# Altium footprint library APSS Flight Parts.PcbLib: 80 footprints (part 4 of 5)
Each footprint in its own frame and in the unit in brackets; x right, y up, seen from the top. Pads: shape width x height; smd on the part's side, far side on the other; paste and mask are expansions set on the pad; w line width, h text height; cw(c..) or ccw(c..) is an arc to the next point about the centre after c.
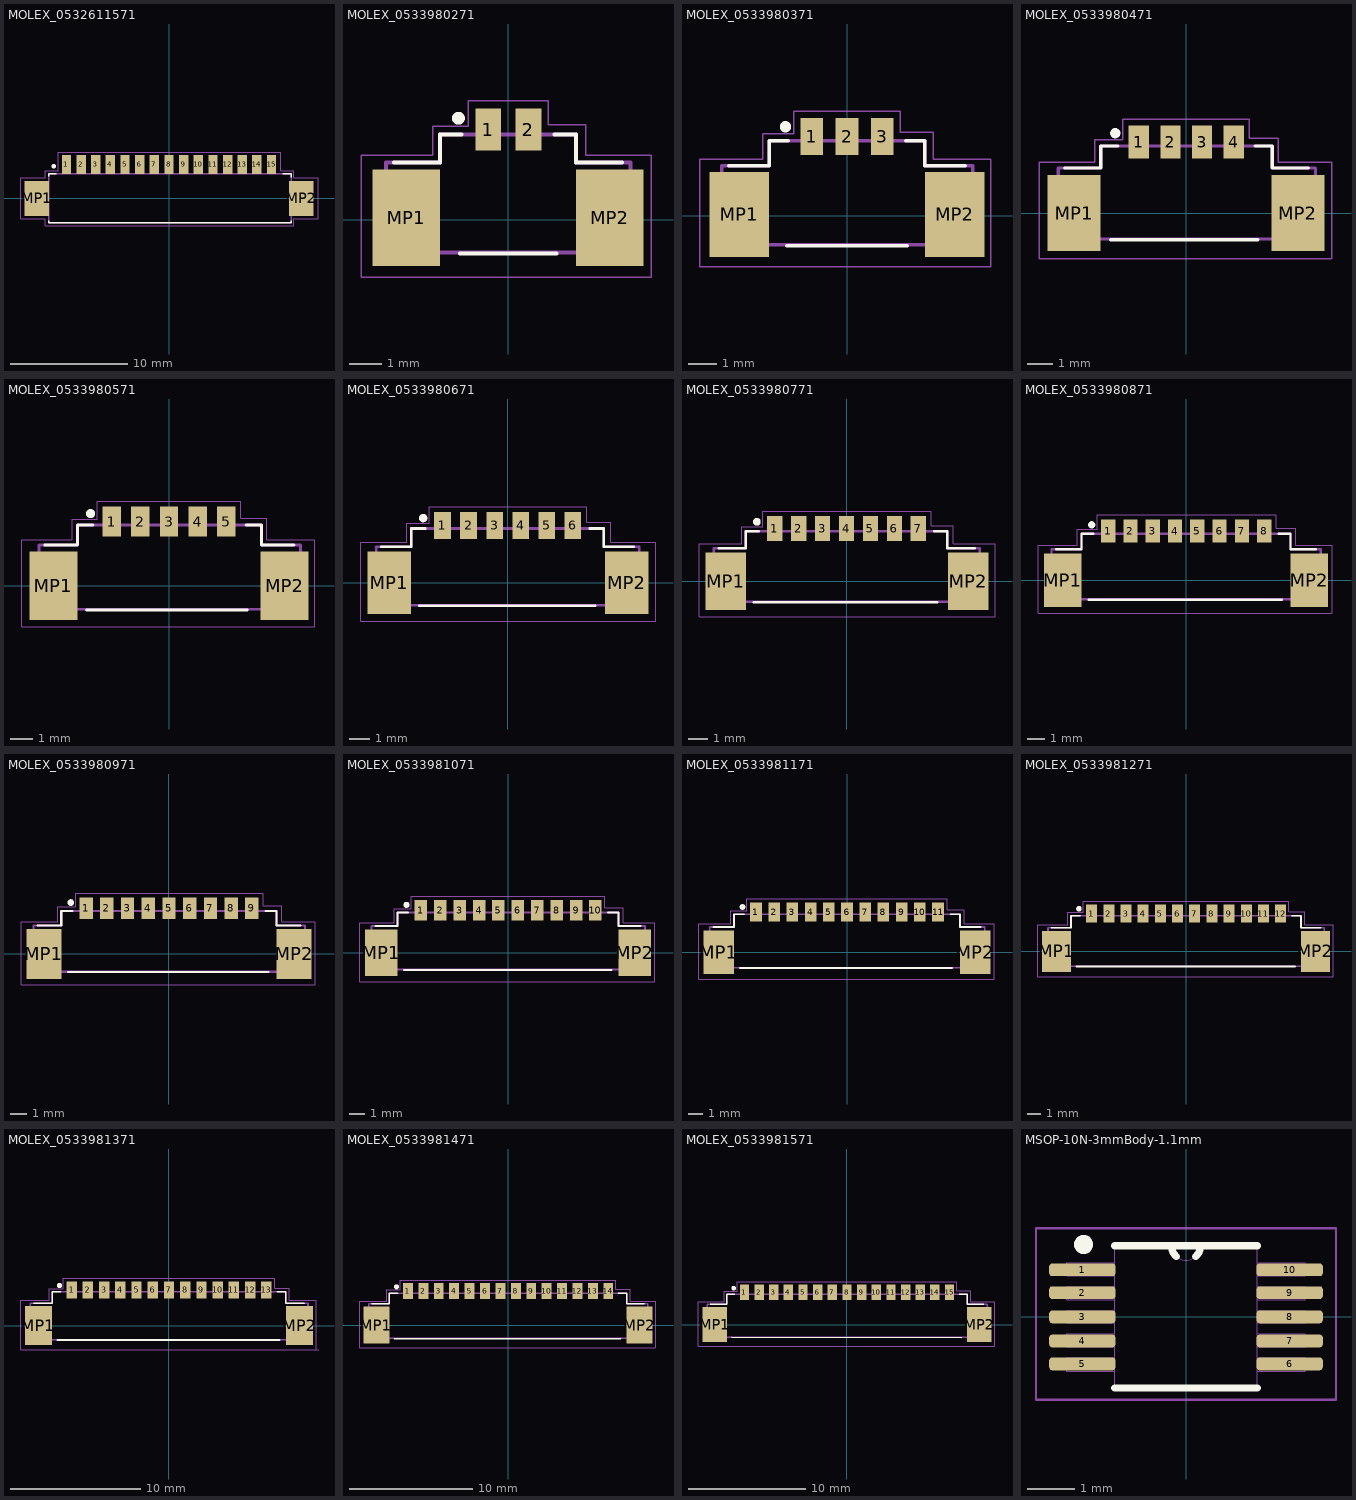
[diagram p3: the footprints below, top view; thin cyan lines are the x and y axes]

## MOLEX_0532611571 [mm] "Header - Picoblade 15-pin, SMT, RA, 3.4mm height"
height 3.4
pads (17):
  rect 0.8x1.6 smd mask+0.051: 1(-8.75,2.9) 2(-7.5,2.9) 3(-6.25,2.9) 4(-5,2.9) 5(-3.75,2.9) 6(-2.5,2.9) 7(-1.25,2.9) 8(0,2.9) 9(1.25,2.9) 10(2.5,2.9) 11(3.75,2.9) 12(5,2.9) 13(6.25,2.9) 14(7.5,2.9) 15(8.75,2.9)
  rect 2.1x3 smd mask+0.051: MP1(-11.3,0) MP2(11.3,0)
Top Overlay:
  circle w0.2: c-9.831,2.735 r0.1
  lines w0.127: -10.275,-1.9 -10.275,-2.1 10.425,-2.1 10.425,-1.9 ; -10.276,1.9 -10.276,2.1 -9.6,2.1 ; 9.7,2.1 10.425,2.1 10.425,1.8
Mechanical 13:
  lines w0.127: -10.275,-1.4 -11.975,-1.4 -11.975,1.4 -10.275,1.4 ; -10.275,-1.4 -10.275,-2.1 10.425,-2.1 10.425,-1.4 ; -10.275,-1.4 -10.275,1.4 ; -10.275,1.4 -10.275,2.1 10.425,2.1 10.425,1.4 ; 10.425,-1.4 12.125,-1.4 12.125,1.4 10.425,1.4 ; 10.425,-1.4 10.425,1.4
Mechanical 15:
  lines w0.05: -12.65,-1.75 -10.55,-1.75 -10.55,-2.35 10.65,-2.35 10.65,-1.75 12.75,-1.75 12.75,1.75 10.65,1.75 10.65,2.35 9.55,2.35 9.55,3.95 -9.45,3.95 -9.45,2.35 -10.55,2.35 -10.55,1.75 -12.65,1.75 -12.65,-1.75
3D body "53261-1571--3DModel-STEP-194946.STEP": height 3.41, standoff 0.01, extent -11.95,-2.1 11.95,3.1

## MOLEX_0533980271 [mm] "Header - Picoblade 02-pin, SMT, STR, 4.7mm height"
height 4.7
pads (4):
  rect 0.8x1.3 smd mask+0.051: 1(-0.625,2.8) 2(0.625,2.8)
  rect 2.1x3 smd mask+0.051: MP1(-3.175,0.05) MP2(3.155,0.05)
Top Overlay:
  circle w0.2: c-1.55,3.15 r0.1
  lines w0.127: -3.55,1.775 -2.125,1.775 -2.125,2.65 -1.45,2.65 ; -1.5,-1.05 1.5,-1.05 ; 1.43,2.65 2.105,2.65 2.105,1.775 3.53,1.775
Mechanical 13:
  lines w0.127: 1.23,2.65 2.105,2.65 ; 3.8,-1.025 -3.8,-1.025 -3.8,1.775 -2.125,1.775 -2.125,2.65 -1.35,2.65 2.105,2.65 ; 3.805,-1.025 3.805,1.775 2.105,1.775 2.105,2.65
Mechanical 15:
  lines w0.05: -4.575,-1.8 -4.575,2 -2.35,2 -2.35,2.9 -1.25,2.9 -1.25,3.7 1.24,3.7 1.24,2.95 2.405,2.95 2.405,2 4.44,2 4.44,-1.8 -4.575,-1.8
3D body "0533980271--3DModel-STEP-361473.STEP": height 4.72, standoff -0.02, extent -3.825,-1.05 3.825,3.15

## MOLEX_0533980371 [mm] "Header - Picoblade 03-pin, SMT, STR, 4.7mm height"
height 4.7
pads (5):
  rect 0.8x1.3 smd mask+0.051: 1(-1.25,2.8) 2(0,2.8) 3(1.25,2.8)
  rect 2.1x3 smd mask+0.051: MP1(-3.8,0.05) MP2(3.8,0.05)
Top Overlay:
  circle w0.2: c-2.175,3.15 r0.1
  lines w0.127: -4.175,1.775 -2.75,1.775 -2.75,2.65 -2.075,2.65 ; -2.125,-1.05 2.125,-1.05 ; 2.075,2.65 2.75,2.65 2.75,1.775 4.175,1.775
Mechanical 13:
  lines w0.127: -4.425,-1.025 4.45,-1.025 4.45,1.775 2.75,1.775 2.75,2.65 1.875,2.65 -1.975,2.65 -2.75,2.65 -2.75,1.775 -4.425,1.775 -4.425,-1.025
Mechanical 15:
  lines w0.05: 1.875,3.7 -1.875,3.7 -1.875,2.9 -2.975,2.9 -2.975,2 -5.2,2 -5.2,-1.8 5.075,-1.8 ; 1.885,3.7 1.885,2.95 3.05,2.95 3.05,2 5.085,2 5.085,-1.8
3D body "533980371.stp": height 4.71, standoff 0.01, extent -4.45,-1.025 4.45,3.175

## MOLEX_0533980471 [mm] "Header - Picoblade 04-pin, SMT, STR, 4.7mm height"
height 4.7
pads (6):
  rect 0.8x1.3 smd mask+0.051: 1(-1.875,2.8) 2(-0.625,2.8) 3(0.625,2.8) 4(1.875,2.8)
  rect 2.1x3 smd mask+0.051: MP1(-4.425,0) MP2(4.405,0)
Top Overlay:
  circle w0.2: c-2.8,3.15 r0.1
  lines w0.127: -4.8,1.775 -3.375,1.775 -3.375,2.65 -2.7,2.65 ; -2.975,-1.05 2.825,-1.05 ; 2.72,2.65 3.395,2.65 3.395,1.775 4.82,1.775
Mechanical 13:
  lines w0.127: 2.52,2.65 3.395,2.65 ; 5.095,-1.025 5.095,1.775 3.395,1.775 3.395,2.65 ; 5.1,-1.025 -5.05,-1.025 -5.05,1.775 -3.375,1.775 -3.375,2.65 -2.6,2.65 3.395,2.65
Mechanical 15:
  lines w0.05: 2.475,3.7 -2.5,3.7 -2.5,2.9 -3.6,2.9 -3.6,2 -5.8,2 -5.8,-1.8 5.725,-1.8 ; 2.48,3.7 2.48,2.95 3.63,2.95 3.63,2 5.73,2 5.73,-1.8
3D body "53398-0471--3DModel-STEP-194946.STEP": height 4.72, standoff -0.02, extent -5.05,-1.025 5.1,3.175

## MOLEX_0533980571 [mm] "Header - Picoblade 05-pin, SMT, STR, 4.7mm height"
height 4.7
pads (7):
  rect 0.8x1.3 smd mask+0.051: 1(-2.5,2.8) 2(-1.25,2.8) 3(0,2.8) 4(1.25,2.8) 5(2.5,2.8)
  rect 2.1x3 smd mask+0.051: MP1(-5.05,0) MP2(5.05,0)
Top Overlay:
  circle w0.2: c-3.425,3.15 r0.1
  lines w0.127: -5.425,1.775 -4,1.775 -4,2.65 -3.325,2.65 ; -3.6,-1.05 3.415,-1.05 ; 3.365,2.65 4.04,2.65 4.04,1.775 5.465,1.775
Mechanical 13:
  lines w0.127: 3.165,2.65 4.04,2.65 4.04,1.775 5.74,1.775 5.74,-1.025 ; 3.365,2.65 -3.225,2.65 -4,2.65 -4,1.775 -5.675,1.775 -5.675,-1.025 5.725,-1.025
Mechanical 15:
  lines w0.05: -6.425,-1.8 6.375,-1.8 6.375,2 4.275,2 4.275,2.95 3.125,2.95 3.125,3.7 -3.125,3.7 -3.125,2.9 -4.225,2.9 -4.225,2 -6.425,2 -6.425,-1.8
3D body "533980571.stp": height 4.71, standoff 0.01, extent -5.7,-1.025 5.7,3.175

## MOLEX_0533980671 [mm] "Header - Picoblade 06-pin, SMT, STR, 4.7mm height"
height 4.7
pads (8):
  rect 0.8x1.3 smd mask+0.051: 1(-3.125,2.75) 2(-1.875,2.75) 3(-0.625,2.75) 4(0.625,2.75) 5(1.875,2.75) 6(3.125,2.75)
  rect 2.1x3 smd mask+0.051: MP1(-5.675,0) MP2(5.705,0)
Top Overlay:
  circle w0.2: c-4.05,3.1 r0.1
  lines w0.127: -6.05,1.725 -4.625,1.725 -4.625,2.6 -3.95,2.6 ; -4.225,-1.1 4.2,-1.1 ; 3.935,2.6 4.61,2.6 4.61,1.725 6.035,1.725
Mechanical 13:
  lines w0.127: 3.86,2.6 4.61,2.6 ; 4.61,2.6 4.61,1.725 6.31,1.725 6.31,-1.075 -6.3,-1.075 -6.3,1.725 -4.625,1.725 -4.625,2.6 -3.85,2.6 4.61,2.6
Mechanical 15:
  lines w0.05: 3.775,3.65 -3.75,3.65 -3.75,2.85 -4.85,2.85 -4.85,1.95 -7.05,1.95 -7.05,-1.85 7.1,-1.85 ; 3.78,3.65 3.78,2.9 4.93,2.9 4.93,1.95 7.105,1.95 7.105,-1.85
3D body "0533980671--3DModel-STEP-361473.STEP": height 4.72, standoff -0.02, extent -6.325,-1.1 6.325,3.1

## MOLEX_0533980771 [mm] "Header - Picoblade 07-pin, SMT, STR, 4.7mm height"
height 4.7
pads (9):
  rect 0.8x1.3 smd mask+0.051: 1(-3.75,2.75) 2(-2.5,2.75) 3(-1.25,2.75) 4(0,2.75) 5(1.25,2.75) 6(2.5,2.75) 7(3.75,2.75)
  rect 2.1x3 smd mask+0.051: MP1(-6.3,0) MP2(6.35,0)
Top Overlay:
  circle w0.2: c-4.675,3.1 r0.1
  lines w0.127: -6.675,1.725 -5.25,1.725 -5.25,2.6 -4.575,2.6 ; -4.85,-1.1 4.725,-1.1 ; 4.58,2.6 5.255,2.6 5.255,1.725 6.68,1.725
Mechanical 13:
  lines w0.127: 4.505,2.6 5.255,2.6 5.255,1.725 6.955,1.725 6.955,-1.075 -6.925,-1.075 -6.925,1.725 -5.25,1.725 -5.25,2.6 -4.475,2.6 5.205,2.6
Mechanical 15:
  lines w0.05: -7.675,-1.85 7.75,-1.85 7.75,1.95 5.575,1.95 5.575,2.9 4.425,2.9 4.425,3.65 -4.375,3.65 -4.375,2.85 -5.475,2.85 -5.475,1.95 -7.675,1.95 -7.675,-1.85
3D body "533980771.stp": height 4.71, standoff 0.01, extent -6.95,-1.1 6.95,3.1

## MOLEX_0533980871 [mm] "Header - Picoblade 08-pin, SMT, STR, 4.7mm height"
height 4.7
pads (10):
  rect 0.8x1.3 smd mask+0.051: 1(-4.375,2.75) 2(-3.125,2.75) 3(-1.875,2.75) 4(-0.625,2.75) 5(0.625,2.75) 6(1.875,2.75) 7(3.125,2.75) 8(4.375,2.75)
  rect 2.1x3 smd mask+0.051: MP1(-6.925,0) MP2(6.905,0)
Top Overlay:
  circle w0.2: c-5.3,3.1 r0.1
  lines w0.127: -7.3,1.725 -5.875,1.725 -5.875,2.6 -5.2,2.6 ; -5.475,-1.1 5.375,-1.1 ; 5.175,2.6 5.85,2.6 5.85,1.725 7.275,1.725
Mechanical 13:
  lines w0.127: 5.1,2.6 5.85,2.6 ; 5.85,2.6 5.85,1.725 7.55,1.725 7.55,-1.075 -7.55,-1.075 -7.55,1.725 -5.875,1.725 -5.875,2.6 -5.1,2.6 5.85,2.6
Mechanical 15:
  lines w0.05: 5.05,3.65 -5,3.65 -5,2.85 -6.1,2.85 -6.1,1.95 -8.3,1.95 -8.3,-1.85 8.175,-1.85 ; 5.055,3.65 5.055,2.9 6.155,2.9 6.155,1.95 8.185,1.95 8.185,-1.85
3D body "0533980871--3DModel-STEP-361473.STEP": height 4.72, standoff -0.02, extent -7.575,-1.075 7.575,3.125

## MOLEX_0533980971 [mm] "Header - Picoblade 09-pin, SMT, STR, 4.7mm height"
height 4.7
pads (11):
  rect 0.8x1.3 smd mask+0.051: 1(-5,2.75) 2(-3.75,2.75) 3(-2.5,2.75) 4(-1.25,2.75) 5(0,2.75) 6(1.25,2.75) 7(2.5,2.75) 8(3.75,2.75) 9(5,2.75)
  rect 2.1x3 smd mask+0.051: MP1(-7.55,0) MP2(7.55,0)
Top Overlay:
  circle w0.2: c-5.925,3.1 r0.1
  lines w0.127: -7.925,1.725 -6.5,1.725 -6.5,2.6 -5.825,2.6 ; -6.1,-1.1 6,-1.1 ; 5.82,2.6 6.495,2.6 6.495,1.725 7.92,1.725
Mechanical 13:
  lines w0.127: 5.745,2.6 6.495,2.6 ; 6.495,2.6 6.495,1.725 8.195,1.725 8.195,-1.075 -8.175,-1.075 -8.175,1.725 -6.5,1.725 -6.5,2.6 -5.725,2.6 6.495,2.6
Mechanical 15:
  lines w0.05: 8.825,-1.85 -8.925,-1.85 -8.925,1.95 -6.725,1.95 -6.725,2.85 -5.625,2.85 -5.625,3.65 5.7,3.65 5.7,2.9 6.8,2.9 6.8,1.95 8.83,1.95 8.83,-1.85
3D body "533980971.stp": height 4.71, standoff 0.01, extent -8.2,-1.1 8.2,3.1

## MOLEX_0533981071 [mm] "Header - Picoblade 10-pin, SMT, STR, 4.7mm height"
height 4.7
pads (12):
  rect 0.8x1.3 smd mask+0.051: 1(-5.625,2.75) 2(-4.375,2.75) 3(-3.125,2.75) 4(-1.875,2.75) 5(-0.625,2.75) 6(0.625,2.75) 7(1.875,2.75) 8(3.125,2.75) 9(4.375,2.75) 10(5.625,2.75)
  rect 2.1x3 smd mask+0.051: MP1(-8.175,0) MP2(8.155,0)
Top Overlay:
  circle w0.2: c-6.55,3.1 r0.1
  lines w0.127: -8.55,1.725 -7.125,1.725 -7.125,2.6 -6.45,2.6 ; -6.725,-1.1 6.65,-1.1 ; 6.44,2.6 7.115,2.6 7.115,1.725 8.54,1.725
Mechanical 13:
  lines w0.127: 6.39,2.6 7.115,2.6 ; 7.115,2.6 7.115,1.725 8.815,1.725 8.815,-1.075 -8.8,-1.075 -8.8,1.725 -7.125,1.725 -7.125,2.6 -6.35,2.6 7.115,2.6
Mechanical 15:
  lines w0.05: 6.225,3.65 -6.25,3.65 -6.25,2.85 -7.35,2.85 -7.35,1.95 -9.55,1.95 -9.55,-1.85 9.45,-1.85 9.45,1.95 7.405,1.95 7.405,2.9 6.23,2.9 6.23,3.65
3D body "0533981071--3DModel-STEP-231308.STEP": height 4.72, standoff -0.02, extent -8.825,-1.075 8.825,3.125

## MOLEX_0533981171 [mm] "Header - Picoblade 11-pin, SMT, STR, 4.7mm height"
height 4.7
pads (13):
  rect 0.8x1.3 smd mask+0.051: 1(-6.25,2.75) 2(-5,2.75) 3(-3.75,2.75) 4(-2.5,2.75) 5(-1.25,2.75) 6(0,2.75) 7(1.25,2.75) 8(2.5,2.75) 9(3.75,2.75) 10(5,2.75) 11(6.25,2.75)
  rect 2.1x3 smd mask+0.051: MP1(-8.8,0) MP2(8.8,0)
Top Overlay:
  circle w0.2: c-7.175,3.1 r0.1
  lines w0.127: -9.175,1.725 -7.75,1.725 -7.75,2.6 -7.075,2.6 ; -7.35,-1.1 7.225,-1.1 ; 7.085,2.6 7.76,2.6 7.76,1.725 9.185,1.725
Mechanical 13:
  lines w0.127: 7.035,2.6 7.76,2.6 ; 7.76,2.6 -6.975,2.6 -7.75,2.6 -7.75,1.725 -9.425,1.725 -9.425,-1.075 9.46,-1.075 9.46,1.725 7.76,1.725 7.76,2.6
Mechanical 15:
  lines w0.05: -10.175,-1.85 10.095,-1.85 10.095,1.95 8.05,1.95 8.05,2.9 6.875,2.9 6.875,3.65 -6.875,3.65 -6.875,2.85 -7.975,2.85 -7.975,1.95 -10.175,1.95 -10.175,-1.85
3D body "533981171.stp": height 4.71, standoff 0.01, extent -9.45,-1.1 9.45,3.1

## MOLEX_0533981271 [mm] "Header - Picoblade 12-pin, SMT, STR, 4.7mm height"
height 4.7
pads (14):
  rect 0.8x1.3 smd mask+0.051: 1(-6.875,2.75) 2(-5.625,2.75) 3(-4.375,2.75) 4(-3.125,2.75) 5(-1.875,2.75) 6(-0.625,2.75) 7(0.625,2.75) 8(1.875,2.75) 9(3.125,2.75) 10(4.375,2.75) 11(5.625,2.75) 12(6.875,2.75)
  rect 2.1x3 smd mask+0.051: MP1(-9.425,0) MP2(9.405,0)
Top Overlay:
  circle w0.2: c-7.8,3.1 r0.1
  lines w0.127: -9.8,1.725 -8.375,1.725 -8.375,2.6 -7.7,2.6 ; -7.975,-1.1 7.925,-1.1 ; 7.68,2.6 8.355,2.6 8.355,1.725 9.78,1.725
Mechanical 13:
  lines w0.127: -7.8,2.6 8.355,2.6 ; -7.6,2.6 -8.375,2.6 -8.375,1.725 -10.05,1.725 -10.05,-1.075 10.05,-1.075 ; 7.48,2.6 8.355,2.6 ; 10.055,-1.075 10.055,1.725 8.355,1.725 8.355,2.6
Mechanical 15:
  lines w0.05: 7.475,3.65 -7.5,3.65 -7.5,2.85 -8.6,2.85 -8.6,1.95 -10.8,1.95 -10.8,-1.85 10.69,-1.85 10.69,1.95 8.63,1.95 8.63,2.9 7.49,2.9 ; 7.48,2.9 7.48,3.65
3D body "53398-1271--3DModel-STEP-361473.STEP": height 4.72, standoff -0.02, extent -10.075,-1.1 10.075,3.1

## MOLEX_0533981371 [mm] "Header - Picoblade 13-pin, SMT, STR, 4.7mm height"
height 4.7
pads (15):
  rect 0.8x1.3 smd mask+0.051: 1(-7.5,2.75) 2(-6.25,2.75) 3(-5,2.75) 4(-3.75,2.75) 5(-2.5,2.75) 6(-1.25,2.75) 7(0,2.75) 8(1.25,2.75) 9(2.5,2.75) 10(3.75,2.75) 11(5,2.75) 12(6.25,2.75) 13(7.5,2.75)
  rect 2.1x3 smd mask+0.051: MP1(-10.05,0) MP2(10.05,0)
Top Overlay:
  circle w0.2: c-8.425,3.1 r0.1
  lines w0.127: -10.425,1.725 -9,1.725 -9,2.6 -8.325,2.6 ; -8.6,-1.1 8.525,-1.1 ; 8.325,2.6 9,2.6 9,1.725 10.425,1.725
Mechanical 13:
  lines w0.127: -8.425,2.6 9,2.6 ; -8.225,2.6 -9,2.6 -9,1.725 -10.675,1.725 -10.675,-1.075 10.7,-1.075 10.7,1.725 9,1.725 9,2.6 ; 8.125,2.6 9,2.6
Mechanical 15:
  lines w0.05: 8.125,2.9 8.125,3.65 -8.125,3.65 -8.125,2.85 -9.225,2.85 -9.225,1.95 -11.425,1.95 -11.425,-1.85 11.525,-1.85 ; 8.135,2.9 9.275,2.9 9.275,1.95 11.335,1.95 11.335,-1.85
3D body "53398-1371--3DModel-STEP-361473.STEP": height 4.71, standoff -0.04, extent -10.7,-1.1 10.7,3.1

## MOLEX_0533981471 [mm] "Header - Picoblade 14-pin, SMT, STR, 4.7mm height"
height 4.7
pads (16):
  rect 0.8x1.3 smd mask+0.051: 1(-8.125,2.75) 2(-6.875,2.75) 3(-5.625,2.75) 4(-4.375,2.75) 5(-3.125,2.75) 6(-1.875,2.75) 7(-0.625,2.75) 8(0.625,2.75) 9(1.875,2.75) 10(3.125,2.75) 11(4.375,2.75) 12(5.625,2.75) 13(6.875,2.75) 14(8.125,2.75)
  rect 2.1x3 smd mask+0.051: MP1(-10.675,0) MP2(10.655,0)
Top Overlay:
  circle w0.2: c-9.05,3.1 r0.1
  lines w0.127: -11.05,1.725 -9.625,1.725 -9.625,2.6 -8.95,2.6 ; -9.225,-1.1 9.125,-1.1 ; 8.93,2.6 9.605,2.6 9.605,1.725 11.03,1.725
Mechanical 13:
  lines w0.127: 8.97,2.6 9.605,2.6 ; 11.32,-1.075 11.32,1.725 9.605,1.725 9.605,2.6 ; 11.325,-1.075 -11.3,-1.075 -11.3,1.725 -9.625,1.725 -9.625,2.6 -8.85,2.6 9.605,2.6
Mechanical 15:
  lines w0.05: 8.725,3.65 -8.75,3.65 -8.75,2.85 -9.85,2.85 -9.85,1.95 -12.05,1.95 -12.05,-1.85 11.95,-1.85 ; 8.73,3.65 8.73,2.9 9.905,2.9 9.905,1.95 11.955,1.95 11.955,-1.85
3D body "0533981471--3DModel-STEP-231308.STEP": height 4.72, standoff -0.02, extent -11.325,-1.075 11.325,3.125

## MOLEX_0533981571 [mm] "Header - Picoblade 15-pin, SMT, STR, 4.7mm height"
height 4.7
pads (17):
  rect 0.8x1.3 smd mask+0.051: 1(-8.75,2.75) 2(-7.5,2.75) 3(-6.25,2.75) 4(-5,2.75) 5(-3.75,2.75) 6(-2.5,2.75) 7(-1.25,2.75) 8(0,2.75) 9(1.25,2.75) 10(2.5,2.75) 11(3.75,2.75) 12(5,2.75) 13(6.25,2.75) 14(7.5,2.75) 15(8.75,2.75)
  rect 2.1x3 smd mask+0.051: MP1(-11.3,0) MP2(11.3,0)
Top Overlay:
  circle w0.2: c-9.675,3.1 r0.1
  lines w0.127: -11.675,1.725 -10.25,1.725 -10.25,2.6 -9.575,2.6 ; -9.85,-1.1 9.8,-1.125 ; 9.575,2.6 10.25,2.6 10.25,1.725 11.675,1.725
Mechanical 13:
  lines w0.127: 9.615,2.6 10.25,2.6 ; 11.965,-1.075 11.965,1.725 10.25,1.725 10.25,2.6 ; 12.175,-1.075 -11.925,-1.075 -11.925,1.725 -10.25,1.725 -10.25,2.6 -9.475,2.6 10.25,2.6
Mechanical 15:
  lines w0.05: -12.675,-1.85 12.6,-1.85 12.6,1.95 10.55,1.95 10.55,2.9 9.375,2.9 9.375,3.65 -9.375,3.65 -9.375,2.85 -10.475,2.85 -10.475,1.95 -12.675,1.95 -12.675,-1.85
3D body "0533981571.stp": height 4.71, standoff 0.01, extent -11.95,-1.1 11.95,3.1

## MSOP-10N-3mmBody-1.1mm [mil] "MSOP-10, 3mm body width, 1.1mm high, nominal pads"
height 43.31
pads (10):
  rrect50% 55x10.63 smd mask+2: 1(-86,39) 2(-86,20) 3(-86,0) 4(-86,-20) 5(-86,-39) 6(86,-39) 7(86,-20) 8(86,0) 9(86,20) 10(86,39)
Top Overlay:
  circle w7.87: c-85,60 r3.94
  lines w6: -59,-59 59,-59 ; -59,59 -12,59 ; -7.99,49.99 cw(c0.11,58.99) -12,58.99 ; 7.99,49.99 ccw(c-0.11,58.99) 12,58.99 ; 59,59 12,59 ; -12,59 12,59
Mechanical 13:
  circle w7.87: c-85,60 r3.94
  lines w1: -99,-45 -59,-45 ; -99,-45 -99,-34 ; -99,-45 -59,-45 ; -99,-45 -99,-34 ; -99,-34 -59,-34 ; -99,-34 -59,-34 ; -99,-25 -59,-25 ; -99,-25 -99,-14 ; -99,-25 -59,-25 ; -99,-25 -99,-14 ; -99,-14 -59,-14 ; -99,-14 -59,-14 ; -99,-5 -59,-5 ; -99,-5 -99,5 ; -99,-5 -59,-5 ; -99,-5 -99,5 ; -99,5 -59,5 ; -99,5 -59,5 ; -99,14 -59,14 ; -99,14 -99,25 ; -99,14 -59,14 ; -99,14 -99,25 ; -99,25 -59,25 ; -99,25 -59,25 ; -99,34 -59,34 ; -99,34 -99,45 ; -99,34 -59,34 ; -99,34 -99,45 ; -99,45 -59,45 ; -99,45 -59,45 ; -59,-59 -59,59 ; -59,-59 59,-59 ; -59,-59 -59,59 ; -59,-59 59,-59 ; -59,-45 -59,-34 ; -59,-45 -59,-34 ; -59,-25 -59,-14 ; -59,-25 -59,-14 ; -59,-5 -59,5 ; -59,-5 -59,5 ; -59,14 -59,25 ; -59,14 -59,25 ; -59,34 -59,45 ; -59,34 -59,45 ; -59,59 -12,59 ; -59,59 -12,59 ; -12,59 ccw(c0,59) 12,59 ; -12,59 ccw(c0,59) 12,59 ; -12,59 12,59 ; -12,59 12,59 ; 12,59 59,59 ; 12,59 59,59 ; 59,-59 59,59 ; 59,-59 59,59 ; 59,-45 99,-45 ; 59,-45 59,-34 ; 59,-45 99,-45 ; 59,-45 59,-34 ; 59,-34 99,-34 ; 59,-34 99,-34 ; 59,-25 99,-25 ; 59,-25 59,-14 ; 59,-25 99,-25 ; 59,-25 59,-14 ; 59,-14 99,-14 ; 59,-14 99,-14 ; 59,-5 99,-5 ; 59,-5 59,5 ; 59,-5 99,-5 ; 59,-5 59,5 ; 59,5 99,5 ; 59,5 99,5 ; 59,14 99,14 ; 59,14 59,25 ; 59,14 99,14 ; 59,14 59,25 ; 59,25 99,25 ; 59,25 99,25 ; 59,34 99,34 ; 59,34 59,45 ; 59,34 99,34 ; 59,34 59,45 ; 59,45 99,45 ; 59,45 99,45 ; 99,-45 99,-34 ; 99,-45 99,-34 ; 99,-25 99,-14 ; 99,-25 99,-14 ; 99,-5 99,5 ; 99,-5 99,5 ; 99,14 99,25 ; 99,14 99,25 ; 99,34 99,45 ; 99,34 99,45
Mechanical 15:
  lines w1.97: -124.41,-68.9 124.41,-68.9 124.41,73.62 -124.41,73.62 -124.41,-68.9
3D body "AD5162BRMZ2.5-RL7.step": height 43.31, standoff 0, extent -96.46,-59.06 96.46,59.06